# Altium schematic symbol library conn_rj_ModularJack.SchLib: 41 symbols
Pins are listed as number, name and electrical type; pins without a type are passive.

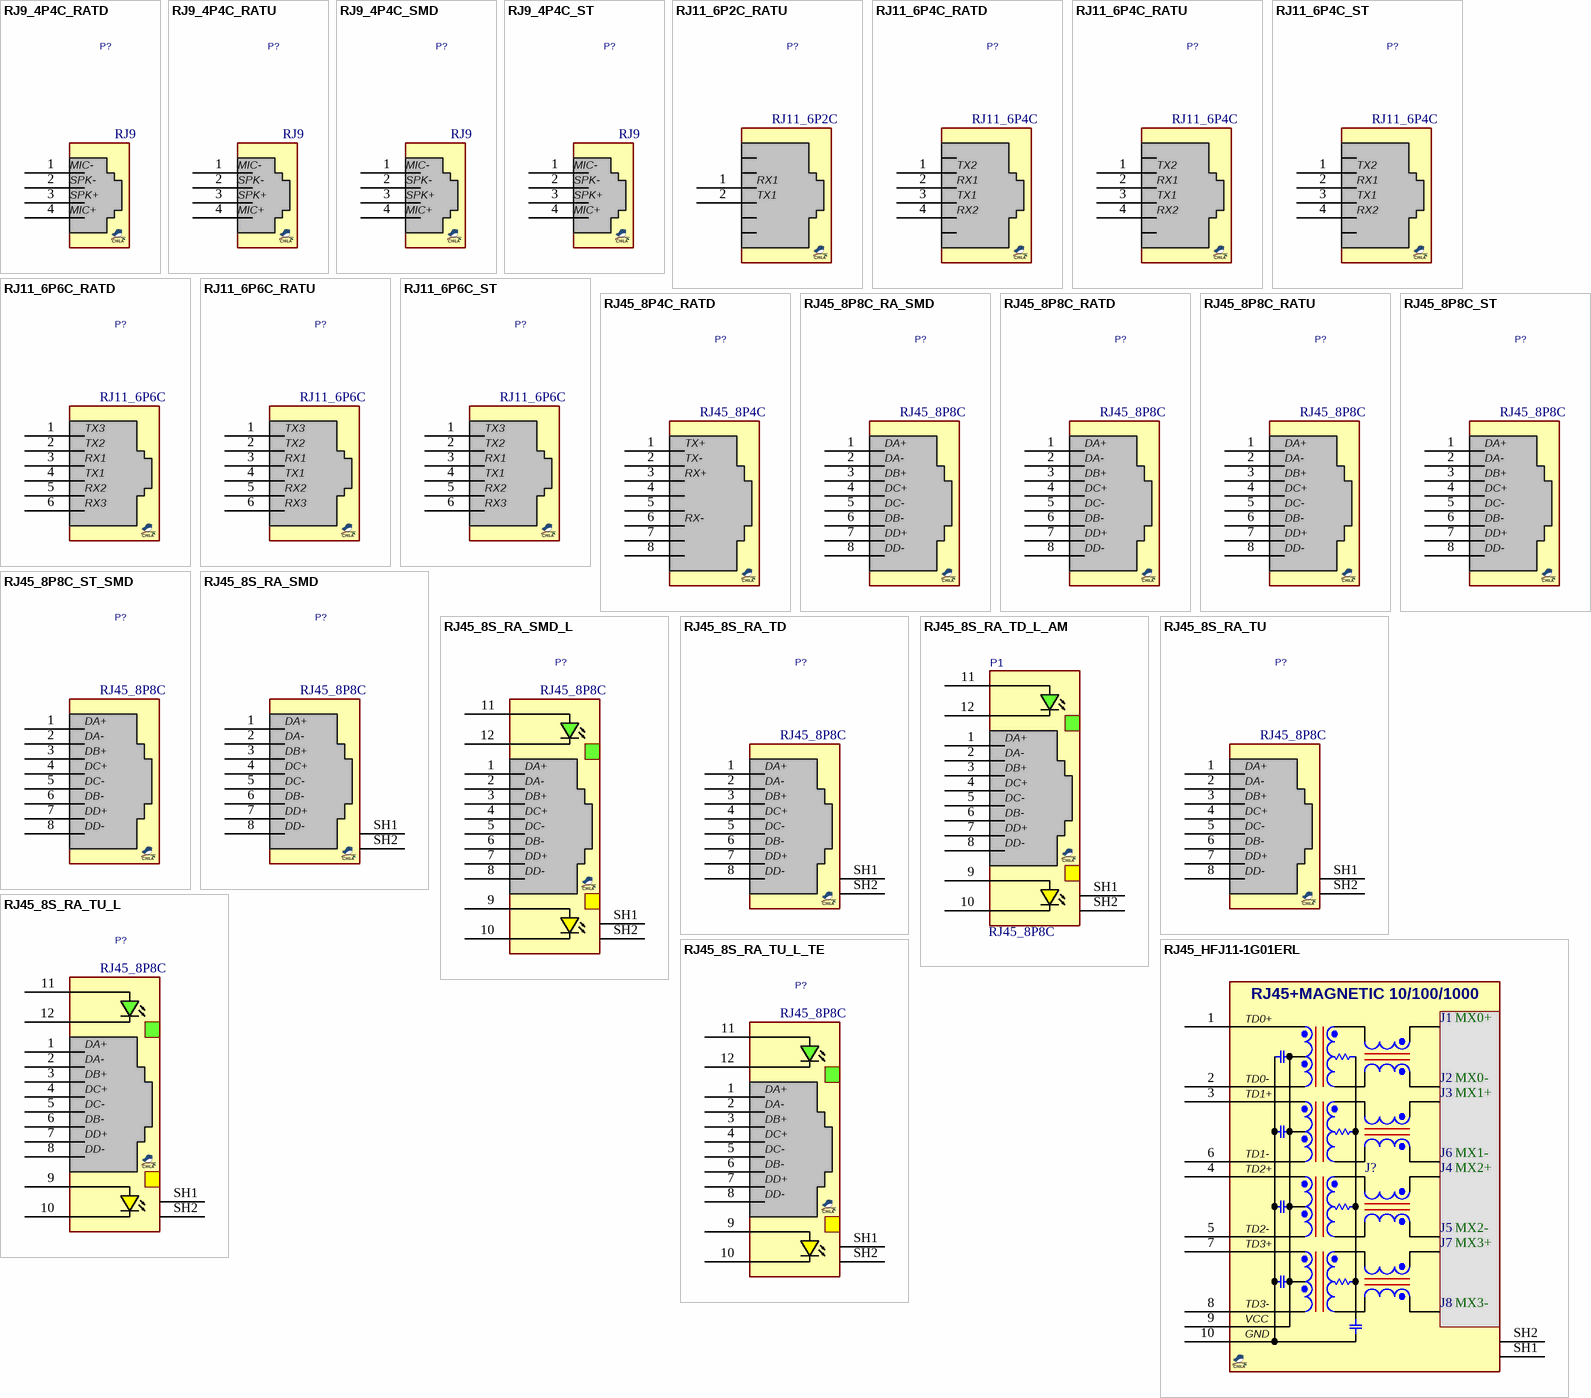
[diagram p0: symbols RJ9_4P4C_RATD to RJ45_HFJ11-1G01ERL]

## RJ9_4P4C_RATD
designator P?, comment RJ9
RJ9, RJ11, 4P4C, RightAngle, TabDown; MANF: MOLEX; MANF_P#: 0950097441; PARAM2: Handset pinout; PRICE: 1.2$; VALUE: RJ9
footprint RJ11_4P4C_RA_TD (RJ11 4P4C, RightAngle, TabDown)
pins: 1 MIC-, 2 SPK-, 3 SPK+, 4 MIC+

## RJ9_4P4C_RATU
designator P?, comment RJ9
RJ9, RJ11, 4P4C, RightAngle, Tab Up,; MANF: WURTH, MOLEX; MANF_P#: 615004143821, 0520184446; PARAM2: Handset pinout; PRICE: 1.2$; VALUE: RJ9
footprint RJ11_4P4C_RA_TU (RJ11 4P4C, RightAngle, TabUp)
pins: 1 MIC-, 2 SPK-, 3 SPK+, 4 MIC+

## RJ9_4P4C_SMD
designator P?, comment RJ9
RJ9, RJ11, 4P4C, RightAngle, Tab Up,; MANF: WURTH; MANF_P#: 634104149621; PARAM2: Handset pinout; PRICE: 1.2$; VALUE: RJ9
footprint RJ11_4P4C_SMD (RJ11 4P4C, Tab Up, Straight, Top Entry_4P4C T&R with Mylar for Pick & Place)
pins: 1 MIC-, 2 SPK-, 3 SPK+, 4 MIC+

## RJ9_4P4C_ST
designator P?, comment RJ9
RJ9, RJ11, 4P4C, Straight; MANF: WURTH, MOLEX; MANF_P#: 615004144021, 0955036451; PARAM2: Handset pinout; PRICE: 1.2$; VALUE: RJ9
footprint RJ11_4P4C_ST (RJ11 4P4C, Tab Up, Straight, WURTH 615004144021)
pins: 1 MIC-, 2 SPK-, 3 SPK+, 4 MIC+

## RJ11_6P2C_RATU
designator P?, comment RJ11_6P2C
RJ11, 6P2C, RightAngle, Tab Up; MANF: WURTH; MANF_P#: 615002138421; PRICE: 1.2$; VALUE: RJ11_6P2C
footprint RJ11_6P2C_RA_TU (RJ11, 6P2C, RightAngle TabUp, WURTH 615002138421)
pins: 1 RX1, 2 TX1

## RJ11_6P4C_RATD
designator P?, comment RJ11_6P4C
RJ11, RJ14, 6P4C, RightAngle, TabDown; MANF: WURTH; MANF_P#: 615004141121; PRICE: 1.2$; VALUE: RJ11_6P4C
footprint RJ11_6P4C_RA_TD (RJ11 6P4C, RightAngle, TabDown, WURTH 615004141121)
pins: 1 TX2, 2 RX1, 3 TX1, 4 TX3
text: RX2

## RJ11_6P4C_RATU
designator P?, comment RJ11_6P4C
RJ11, RJ14, 6P4C, RightAngle, Tab Up; MANF: WURTH; MANF_P#: 615004138421; PRICE: 1.2$; VALUE: RJ11_6P4C
footprint RJ11_6P4C_RA_TU (RJ11, 6P4C, RightAngle TabUp, WURTH 615004138421)
pins: 1 TX2, 2 RX1, 3 TX1, 4 TX3
text: RX2

## RJ11_6P4C_ST
designator P?, comment RJ11_6P4C
RJ11, RJ14, 6P4C, Straight, TOP Entry; MANF: WURTH; MANF_P#: 615004144121,; PRICE: 1.2$; VALUE: RJ11_6P4C
footprint RJ11_6P4C_ST (RJ11, 6P4C, Straight, WURTH 615004144121)
pins: 1 TX2, 2 RX1, 3 TX1, 4 TX3
text: RX2

## RJ11_6P6C_RATD
designator P?, comment RJ11_6P6C
RJ11, RJ25, 6P6C, RightAngle, TabDown; MANF: WURTH; MANF_P#: 615004141121, 615006143621; PRICE: 1.2$; VALUE: RJ11_6P6C
footprint RJ11_6P6C_RA_TD (RJ11 6P6C, RightAngle, TabDown, WURTH 615004141121)
pins: 1 TX3, 2 TX2, 3 RX1, 4 TX1, 5 RX2, 6 RX3

## RJ11_6P6C_RATU
designator P?, comment RJ11_6P6C
RJ11, RJ25, 6P6C, RightAngle, Tab Up; MANF: WURTH; MANF_P#: 615006138421; PRICE: 1.2$; VALUE: RJ11_6P6C
footprint RJ11_6P6C_RA_TU (RJ11, 6P6C, RightAngle TabUp, WURTH 615006138421)
pins: 1 TX3, 2 TX2, 3 RX1, 4 TX1, 5 RX2, 6 RX3

## RJ11_6P6C_ST
designator P?, comment RJ11_6P6C
RJ11, RJ25, 6P6C, Straight, TOP Entry; MANF: WURTH; MANF_P#: 615006144121, 615006138521; PRICE: 1.2$; VALUE: RJ11_6P6C
footprint RJ11_6P6C_ST (RJ11, 6P6C, Straight, WURTH 615006144121)
pins: 1 TX3, 2 TX2, 3 RX1, 4 TX1, 5 RX2, 6 RX3

## RJ45_8P4C_RATD
designator P?, comment RJ45_8P4C
RJ45, 8P4C, RightAngle, Tab Down; MANF: WURTH; MANF_P#: 615008137121, 615008143721; PARAM2: 10/100BASE; PRICE: 1.2$; VALUE: RJ45_8P4C
footprint RJ45_8_RA_TD (RJ11 6P6C, RightAngle, TabDown, WURTH 615008137121)
pins: 1 TX+, 2 TX-, 3 RX+, 4 NC, 5 NC, 6 RX-, 7 NC, 8 NC

## RJ45_8P8C_RA_SMD
designator P?, comment RJ45_8P8C
RJ45, 8P8C, RightAngle, Tab Down SMD; MANF: WURTH; MANF_P#: 634008137221, 634108149921; PRICE: 1.2$; VALUE: RJ45_8P8C
footprint RJ45_8_RA_SMD (RJ45 8P8C, RightAngle, TabDown SMD, WURTH 634008137221)
pins: 1 DA+, 2 DA-, 3 DB+, 4 DC+, 5 DC-, 6 DB-, 7 DD+, 8 DD-

## RJ45_8P8C_RATD
designator P?, comment RJ45_8P8C
RJ45, 8P8C, RightAngle, Tab Down; MANF: WURTH; MANF_P#: 615008137121, 615008143721; PRICE: 1.2$; VALUE: RJ45_8P8C
footprint RJ45_8_RA_TD (RJ11 6P6C, RightAngle, TabDown, WURTH 615008137121)
pins: 1 DA+, 2 DA-, 3 DB+, 4 DC+, 5 DC-, 6 DB-, 7 DD+, 8 DD-

## RJ45_8P8C_RATU
designator P?, comment RJ45_8P8C
RJ45, 8P8C, RightAngle, TabUp; MANF: WURTH; MANF_P#: 615008148521; PRICE: 1.2$; VALUE: RJ45_8P8C
footprint RJ45_8_RA_TU (RJ45 8P8C, RightAngle, TabUp, WURTH 615008148521)
pins: 1 DA+, 2 DA-, 3 DB+, 4 DC+, 5 DC-, 6 DB-, 7 DD+, 8 DD-

## RJ45_8P8C_ST
designator P?, comment RJ45_8P8C
RJ45, 8P8C, Straight, TOP Entry; MANF: WURTH; MANF_P#: 615008138021, 615008144221; PRICE: 1.2$; VALUE: RJ45_8P8C
footprint RJ45_8_ST (RJ45 8P8C, Straight, WURTH  615008138021)
pins: 1 DA+, 2 DA-, 3 DB+, 4 DC+, 5 DC-, 6 DB-, 7 DD+, 8 DD-

## RJ45_8P8C_ST_SMD
designator P?, comment RJ45_8P8C
RJ45, 8P8C, Straight, SMD; MANF: WURTH; MANF_P#: 634008138121; PRICE: 1.2$; VALUE: RJ45_8P8C
footprint RJ45_8_ST_SMD (RJ45 8P8C, Straight SMD, WURTH 634008138121)
pins: 1 DA+, 2 DA-, 3 DB+, 4 DC+, 5 DC-, 6 DB-, 7 DD+, 8 DD-

## RJ45_8S_RA_SMD
designator P?, comment RJ45_8P8C
RJ45, 8P, SHIELDED, RightAngle, TabUp, SMDEMI panel ground; MANF: WURTH; MANF_P#: 634008149721; PRICE: 1.2$; VALUE: RJ45_8P8C
footprint RJ45_8S_RA_SMD (RJ45, 8P8C, RightAngle, Tabup, SMD, WURTH 634008149721)
pins: 1 DA+, 2 DA-, 3 DB+, 4 DC+, 5 DC-, 6 DB-, 7 DD+, 8 DD-, SH1, SH2

## RJ45_8S_RA_SMD_L
designator P?, comment RJ45_8P8C
RJ45, 8P, SHIELDED, RightAngle, TabUp, SMDEMI panel ground; MANF: WURTH; MANF_P#: 634008149721; PARAM2: SHIELDED, RightAngle, TabUp, SMDEMI panel ground; PRICE: 1.2$; VALUE: RJ45_8P8C
footprint RJ45_8S_RA_SMD_L (RJ45, 8P+G/Y-LED, RightAngle, TabUp, SMD, WURTH 634008137521)
pins: 1 DA+, 2 DA-, 3 DB+, 4 DC+, 5 DC-, 6 DB-, 7 DD+, 8 DD-, 9 YLED+, 10 YLED-, 11 GLED+, 12 GLED-, SH1, SH2

## RJ45_8S_RA_TD
designator P?, comment RJ45_8P8C
RJ45, 8P, SHIELDED, RightAngle, TabDown; MANF: WURTH; MANF_P#: 615008142621; PRICE: 1.2$; VALUE: RJ45_8P8C
footprint RJ45_8S_RA_TD (RJ45, 8P, SHIELDED, RightAngle, TabDown, WURTH 615008142621)
pins: 1 DA+, 2 DA-, 3 DB+, 4 DC+, 5 DC-, 6 DB-, 7 DD+, 8 DD-, SH1, SH2

## RJ45_8S_RA_TD_L_AM
designator P1, comment RJ45_8P8C
RJ45, 8P+LED, SHIELDED, RightAngle, TabDown; MANF: Amphenol; MANF_P#: RJE73-188-00440; PARAM: 8P+LED, SHIELDED, -40~85 °C; PARAM2: RightAngle, TabDown; PRICE: 1.2$; VALUE: RJ45_8P8C
footprint RJ45_8S_RA_TD_L (RJ45, 8P+LED, SHIELDED, RightAngle, TabDOWN, RJE73-188-00XX)
pins: 1 DA+, 2 DA-, 3 DB+, 4 DC+, 5 DC-, 6 DB-, 7 DD+, 8 DD-, 9 YLED+, 10 YLED-, 11 GLED+, 12 GLED-, SH1, SH2

## RJ45_8S_RA_TU
designator P?, comment RJ45_8P8C
RJ45, 8P, SHIELDED, RightAngle, TabUP; MANF: WURTH; MANF_P#: 615008140621; PRICE: 1.2$; VALUE: RJ45_8P8C
footprint RJ45_8S_RA_TU (RJ45, 8P, SHIELDED, RightAngle, TabUP, WURTH 615008140621)
pins: 1 DA+, 2 DA-, 3 DB+, 4 DC+, 5 DC-, 6 DB-, 7 DD+, 8 DD-, SH1, SH2

## RJ45_8S_RA_TU_L
designator P?, comment RJ45_8P8C
RJ45, 8P+LED, SHIELDED, RightAngle, TabUP; MANF: WURTH; MANF_P#: 615008137421; PRICE: 1.2$; VALUE: RJ45_8P8C
footprint RJ45_8S_RA_TU_L (RJ45, 8P+LED, SHIELDED, RightAngle, TabUP, WURTH 615008137421)
pins: 1 DA+, 2 DA-, 3 DB+, 4 DC+, 5 DC-, 6 DB-, 7 DD+, 8 DD-, 9 YLED+, 10 YLED-, 11 GLED+, 12 GLED-, SH1, SH2

## RJ45_8S_RA_TU_L_TE
designator P?, comment RJ45_8P8C
RJ45, 8P+LED, SHIELDED, RightAngle, TabUP; MANF: TE; MANF_P#: 6116075-4; PARAM: 8P+LED, SHIELDED, -40~85 °C; PARAM2: RightAngle, TabUP; PRICE: 1.2$; VALUE: RJ45_8P8C
footprint RJ45_8S_RA_TU_L (RJ45, 8P+LED, SHIELDED, RightAngle, TabUP, WURTH 615008137421)
pins: 1 DA+, 2 DA-, 3 DB+, 4 DC+, 5 DC-, 6 DB-, 7 DD+, 8 DD-, 9 YLED+, 10 YLED-, 11 GLED+, 12 GLED-, SH1, SH2

## RJ45_HFJ11-1G01ERL
designator J?, comment RJ45_10/100/1000  (value not drawn)
RJ45, 10/100/1000, with Magnetic; MANF: HALO; MANF_P#: HFJ11-1G01ERL; PARAM2: 10/100/1000, with Magnetic; PRICE: 15$; VALUE: RJ45_10/100/1000
footprint RJ45_10M_HFJ11_1G (RJ45_HFJ11_1G01E (HALO Ethernet Gigabit FASTJACK))
pins: 1 TD0+, 2 TD0-, 3 TD1+, 4 TD2+, 5 TD2-, 6 TD1-, 7 TD3+, 8 TD3-, 9 VCC, 10 GND, SH1, SH2
text: RJ45+MAGNETIC 10/100/1000; J1; MX0+; J2; MX0-; J3; MX1+; J6; MX1-; J4; MX2+; J5; MX2-; J7; MX3+; J8; MX3-

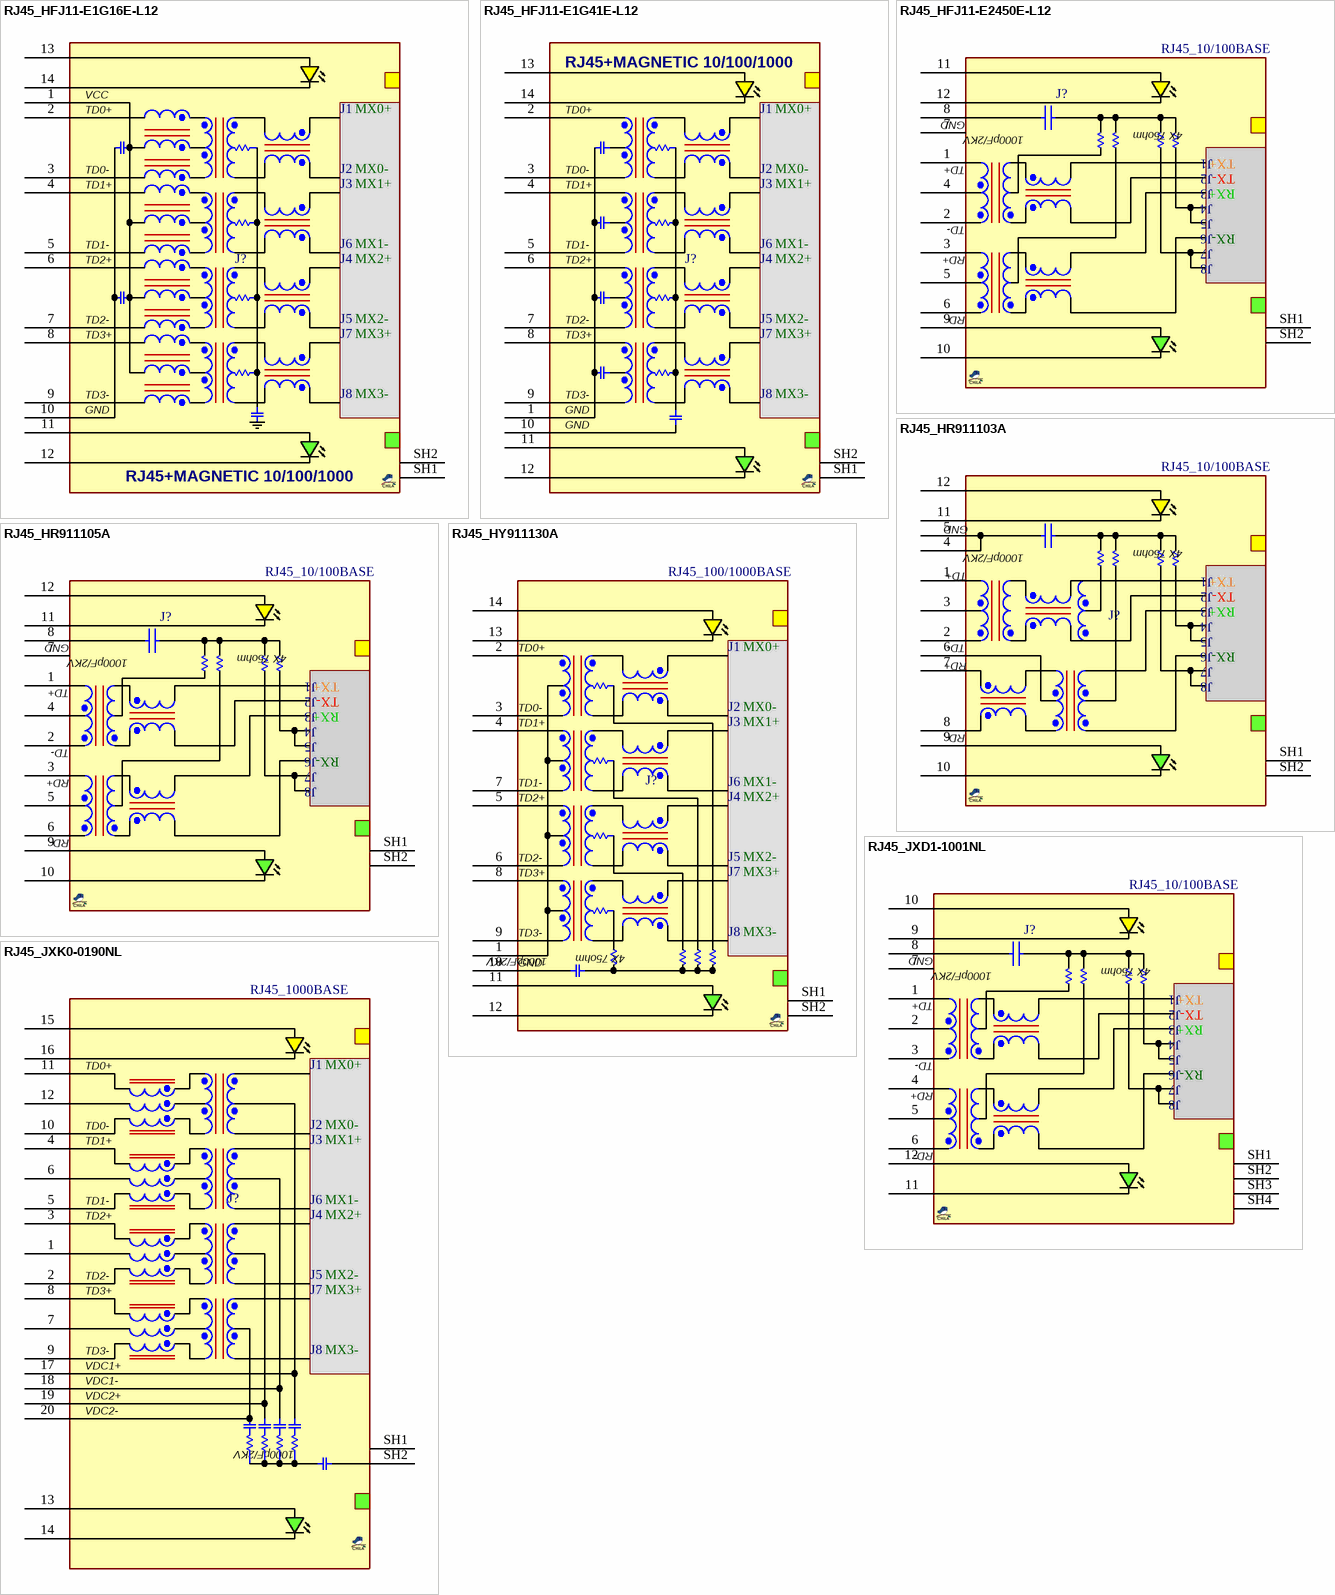
[diagram p1: symbols RJ45_HFJ11-E1G16E-L12 to RJ45_JXK0-0190NL]

## RJ45_HFJ11-E1G16E-L12
designator J?, comment RJ45_10/100/1000  (value not drawn)
RJ45, 10/100/1000, with Magnetic, G/Y LED; MANF: HALO; MANF_P#: HFJ11-E1G16E-L12RL; PARAM: -40~85oC; PARAM2: 10/100/1000, with Magnetic, G/Y LED; PRICE: 20$; VALUE: RJ45_10/100/1000
footprint RJ45_10M_HFJ11_1G_L (RJ45_HFJ11 (HALO Ethernet Gigabit FASTJACK) WITH LED)
pins: 1 VCC, 2 TD0+, 3 TD0-, 4 TD1+, 5 TD1-, 6 TD2+, 7 TD2-, 8 TD3+, 9 TD3-, 10 CHSGND, 11 GLED+, 12 GLED-, 13 YLED+, 14 YLED-, SH1, SH2
text: J1; MX0+; J2; MX0-; J3; MX1+; J6; MX1-; J4; MX2+; J5; MX2-; J7; MX3+; J8; MX3-; GND; RJ45+MAGNETIC 10/100/1000

## RJ45_HFJ11-E1G41E-L12
designator J?, comment RJ45_10/100/1000  (value not drawn)
RJ45, 10/100/1000, with Magnetic, G/Y LED; MANF: HALO; MANF_P#: HFJ11-E1G41E-L12RL; PARAM: -40~85oC; PARAM2: 10/100/1000, with Magnetic, G/Y LED; PRICE: 20$; VALUE: RJ45_10/100/1000
footprint RJ45_10M_HFJ11_1G_L (RJ45_HFJ11 (HALO Ethernet Gigabit FASTJACK) WITH LED)
pins: 1 GND, 2 TD0+, 3 TD0-, 4 TD1+, 5 TD1-, 6 TD2+, 7 TD2-, 8 TD3+, 9 TD3-, 10 CHSGND, 11 GLED+, 12 GLED-, 13 YLED+, 14 YLED-, SH1, SH2
text: RJ45+MAGNETIC 10/100/1000; J1; MX0+; J2; MX0-; J3; MX1+; J6; MX1-; J4; MX2+; J5; MX2-; J7; MX3+; J8; MX3-

## RJ45_HFJ11-E2450E-L12
designator J?, comment RJ45_10/100BASE
RJ45, 10/100BASE, G/Y LED; MANF: HALO; MANF_P#: HFJ11-E2450E-L12RL; PARAM: 0~70oC; PARAM2: 10/100BASE, G/Y LED; VALUE: RJ45_10/100BASE
footprint RJ45_8M_RA_TD_LI (Ethernet FASTJACK MAGJACK with LED INLINE)
pins: 1 TD+, 2 TD-, 3 RD+, 4 TCT, 5 RCT, 6 RD-, 7 NC, 8 CHSGND, 9 GLED+, 10 GLED-, 11 YLED+, 12 YLED-, SH1, SH2
text: GND; 4X 75ohm; 1000pF/2KV; J1; TX+; J2; TX-; J3; RX+; J4; J5; J6; RX-; J7; J8

## RJ45_HR911103A
designator J?, comment RJ45_10/100BASE
RJ45, 10/100BASE, G/Y LED; MANF: Hanrun; MANF_P#: HR911103A; PARAM2: 10/100BASE, G/Y LED; VALUE: RJ45_10/100BASE
footprint RJ45_8M_HR911103A (RJ45, 10/100BASE, HR911103A WITH G/Y LED)
pins: 1 TD+, 2 TD-, 3 TCT, 4, 5 CHSGND, 6 RCT, 7 RD+, 8 RD-, 9 GLED+, 10 GLED-, 11 YLED-, 12 YLED+, SH1, SH2
text: GND; 4X 75ohm; 1000pF/2KV; J1; TX+; J2; TX-; J3; RX+; J4; J5; J6; RX-; J7; J8

## RJ45_HR911105A
designator J?, comment RJ45_10/100BASE
RJ45, 10/100BASE, G/Y LED; MANF: Hanrun; MANF_P#: HR911105A; PARAM2: 10/100BASE, G/Y LED; VALUE: RJ45_10/100BASE
footprint RJ45_8M_HR911105A (RJ45, 10/100BASE, HR911105A WITH G/Y LED)
pins: 1 TD+, 2 TD-, 3 RD+, 4 TCT, 5 RCT, 6 RD-, 7 NC, 8 CHSGND, 9 GLED+, 10 GLED-, 11 YLED-, 12 YLED+, SH1, SH2
text: GND; 4X 75ohm; 1000pF/2KV; J1; TX+; J2; TX-; J3; RX+; J4; J5; J6; RX-; J7; J8

## RJ45_HY911130A
designator J?, comment RJ45_100/1000BASE
RJ45, 100/1000BASE, G/Y LED; MANF: Hanrun, LINK-PP; MANF_P#: HY911130A, HR911130A, LPJG0806FBNL; PARAM: 0~70oC; PARAM2: 100/1000BASE, G/Y LED; VALUE: RJ45_100/1000BASE
footprint RJ45_10M_HR911130A (RJ45, 1000BASE, HR911130A WITH G/Y LED)
pins: 1 P1, 2 TD0+, 3 TD0-, 4 TD1+, 5 TD2+, 6 TD2-, 7 TD1-, 8 TD3+, 9 TD3-, 10 GND, 11 GLED+, 12 GLED-, 13 YLED-, 14 YLED+, SH1, SH2
text: J1; MX0+; J2; MX0-; J3; MX1+; J6; MX1-; J4; MX2+; J5; MX2-; J7; MX3+; J8; MX3-; 4X 75ohm; 1000pF/2KV

## RJ45_JXD1-1001NL
designator J?, comment RJ45_10/100BASE
RJ45, 10/100BASE, G/Y LED; MANF: PULSE; MANF_P#: JXD1-1001NL; PARAM: -40~85oC; PARAM2: 10/100BASE, G/Y LED; PRICE: 6$; VALUE: RJ45_10/100BASE
footprint RJ45_8M_RA_JXD1 (Ethernet 10/100 JXD1-1001NL)
pins: 1 TD+, 2 TCT, 3 TD-, 4 RD+, 5 RCT, 6 RD-, 7 NC, 8 CHSGND, 9 YLED-, 10 YLED+, 11 GLED-, 12 GLED+, SH1, SH2, SH3, SH4
text: GND; 4X 75ohm; 1000pF/2KV; J1; TX+; J2; TX-; J3; RX+; J4; J5; J6; RX-; J7; J8

## RJ45_JXK0-0190NL
designator J?, comment RJ45_1000BASE
RJ45, 1000BASE, G/Y LED + POE; MANF: Pulse; MANF_P#: JXK0-0190NL; PARAM: 4PAIR POE 75W, -40~85oC; PARAM2: 1000BASE, G/Y LED; VALUE: RJ45_1000BASE
footprint RJ45_20M_JXK0_0190 (RJ45, 1000Base, JXK0-0190NL Pulse)
pins: 1 MDCT3, 2 MD3-, 3 MD3+, 4 MD2+, 5 MD2-, 6 MDCT2, 7 MDCT4, 8 MD4+, 9 MD4-, 10 MD1-, 11 MD1+, 12 MDCT1, 13 GLEDA, 14 GLEDK, 15 YLEDA, 16 YLEDK, 17 VC1+, 18 VC1-, 19 VC2+, 20 VC2-, SH1, SH2
text: TD0+; J1; MX0+; TD0-; J2; MX0-; TD1+; J3; MX1+; TD1-; J6; MX1-; TD2+; J4; MX2+; TD2-; J5; MX2-; TD3+; J7; MX3+; TD3-; J8; MX3-; VDC1+; VDC1-; VDC2+; VDC2-; 1000pF/2KV

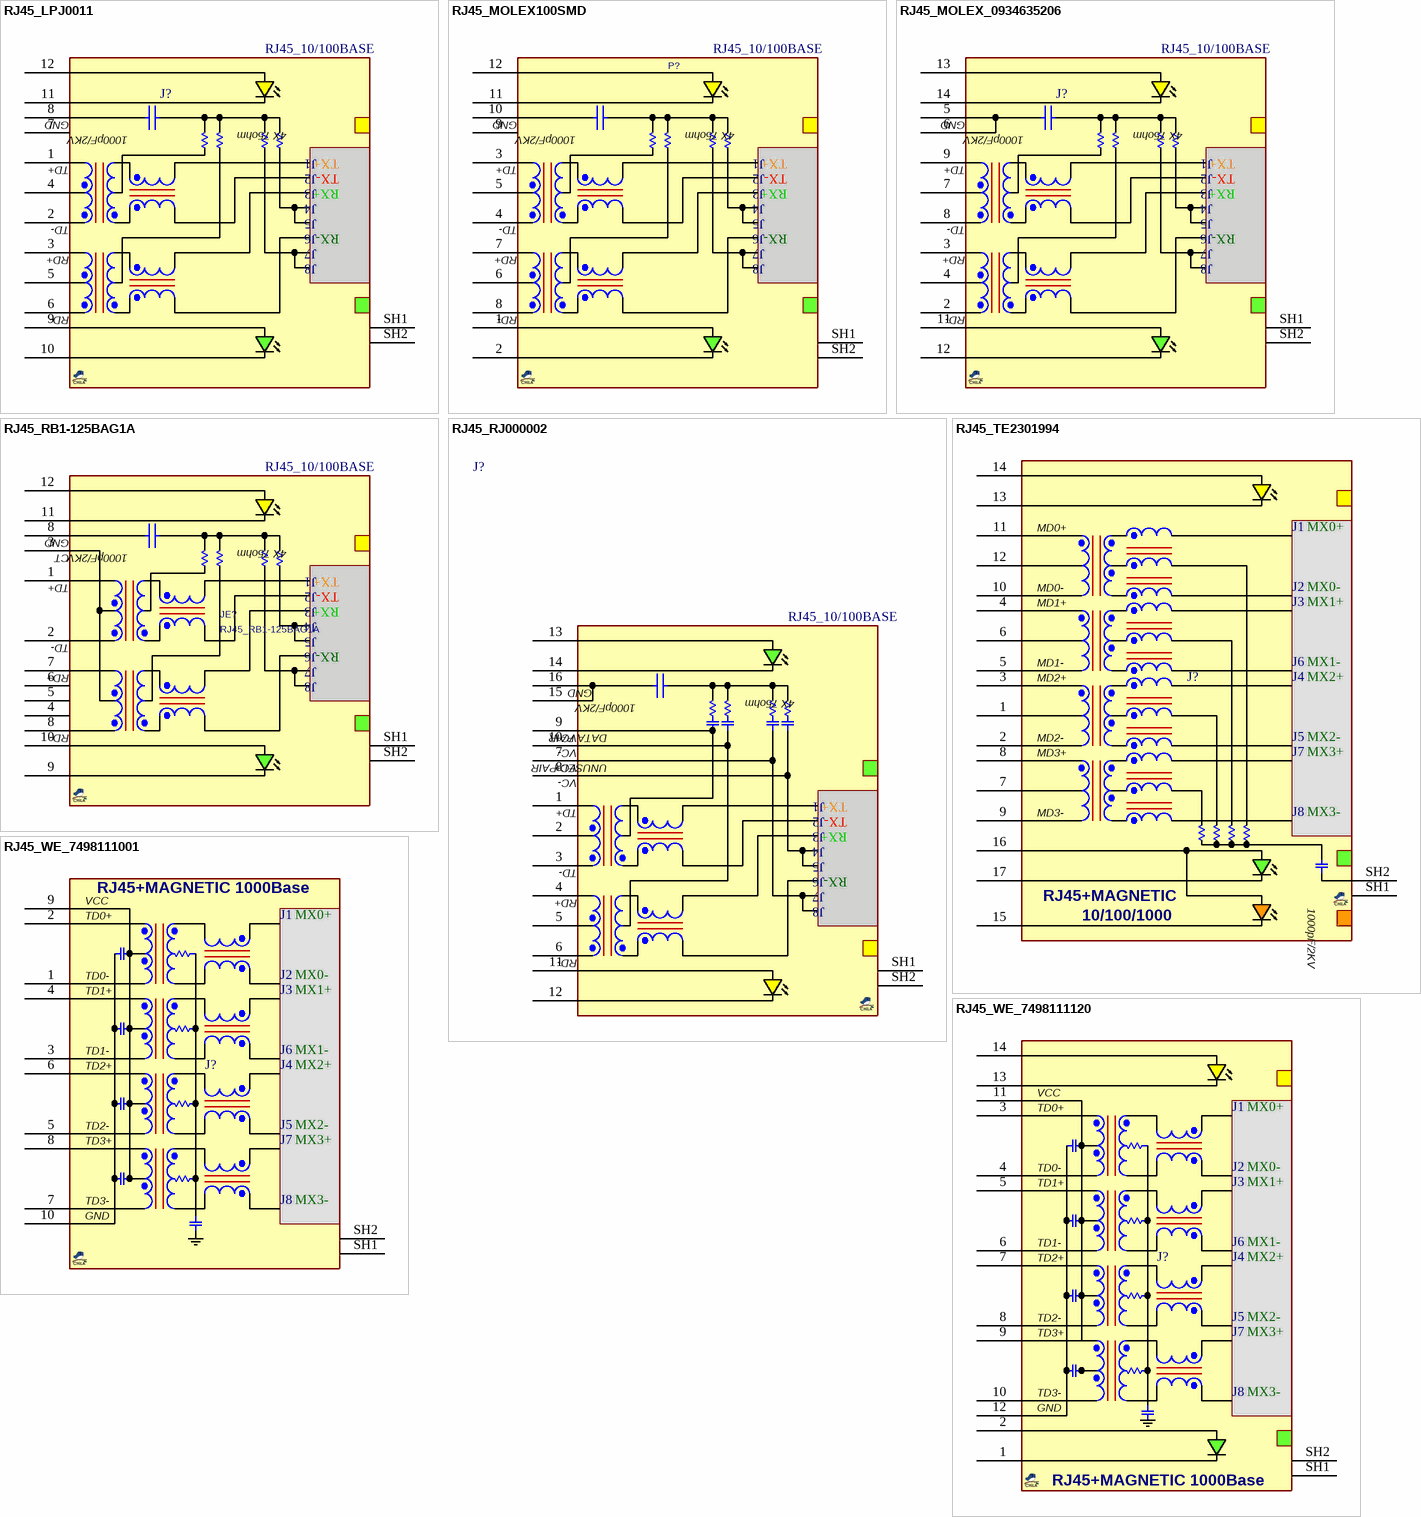
[diagram p2: symbols RJ45_LPJ0011 to RJ45_WE_7498111120]

## RJ45_LPJ0011
designator J?, comment RJ45_10/100BASE
RJ45, 10/100BASE, G/Y LED; MANF: LINK-PP; MANF_P#: LPJ0011BBNL; PARAM: 0~70oC; PARAM2: 10/100BASE, G/Y LED; VALUE: RJ45_10/100BASE
footprint RJ45_8M_HR911105A (RJ45, 10/100BASE, HR911105A WITH G/Y LED)
pins: 1 TD+, 2 TD-, 3 RD+, 4 TCT, 5 RCT, 6 RD-, 7 NC, 8 CHSGND, 9 GLED+, 10 GLED-, 11 YLED-, 12 YLED+, SH1, SH2
text: GND; 4X 75ohm; 1000pF/2KV; J1; TX+; J2; TX-; J3; RX+; J4; J5; J6; RX-; J7; J8

## RJ45_MOLEX100SMD
designator P?, comment RJ45_10/100BASE
RJ45, 10/100BASE, G/Y LED, SMT; DESC: MAGNET AND MODULAR JACK; MANF: MOLEX; MANF_P#: 48074-9001; PARAM2: 10/100BASE, G/Y LED; VALUE: RJ45_10/100BASE
footprint RJ45_8M_100M_SMD (RJ45, 10/100BASE, MOLEX SMD WITH G/Y LED)
pins: 1 GLED+, 2 GLED-, 3 TD+, 4 TD-, 5 TCT, 6 RCT, 7 RD+, 8 RD-, 9 NC, 10 CHSGND, 11 YLED-, 12 YLED+, SH1, SH2
text: GND; 4X 75ohm; 1000pF/2KV; J1; TX+; J2; TX-; J3; RX+; J4; J5; J6; RX-; J7; J8

## RJ45_MOLEX_0934635206
designator J?, comment RJ45_10/100BASE
RJ45, 10/100BASE, G/Y LED, UpTab; MANF: Molex; MANF_P#: 0934635206; PARAM: -40~85oC; PARAM2: 10/100BASE, G/Y LED; PRICE: 4.2$; VALUE: RJ45_10/100BASE
footprint RJ45_8M_0934635206 (RJ45, 10/100BASE, Up Tab, 0934635206 MOLEX)
pins: 2 RD-, 3 RD+, 4 RCT, 5 CHSGND, 6 GND, 7 TCT, 8 TD-, 9 TD+, 11 GLED+, 12 GLED-, 13 YLED+, 14 YLED-, SH1, SH2
text: 4X 75ohm; 1000pF/2KV; J1; TX+; J2; TX-; J3; RX+; J4; J5; J6; RX-; J7; J8

## RJ45_RB1-125BAG1A
designator JE?  value RJ45_10/100BASE
RJ45, 10/100BASE, G/Y LED; DIST#: DIGIKEY/1278-1011-ND; DESC: CONN MAGJACK 1PORT 100 BASE-T; MANF: WIZNET; PRICE: 1:$2.55; MANF_P#: RB1-125BAG1A; PARAM2: 10/100BASE, G/Y LED
footprint RJ45_8M_LS (HALO Ethernet FASTJACK with LED STAGGERED, RB1-125BAG1A)
pins: 1 TD+, 2 TD-, 3 CT, 4, 5, 6, 7 RD+, 8 RD-, 8 CHSGND, 9 GLED-, 10 GLED+, 11 YLED-, 12 YLED+, SH1, SH2
text: GND; 4X 75ohm; 1000pF/2KV; J1; TX+; J2; TX-; J3; RX+; J4; J5; J6; RX-; J7; J8

## RJ45_RJ000002
designator J?, comment RJ45_10/100BASE
RJ45, 10/100BASE, G/Y LED; MANF: LINK-PP, YCL; MANF_P#: RJ000002; PARAM2: 10/100BASE, G/Y LED; VALUE: RJ45_10/100BASE
footprint RJ45_10M_RJ000002 (RJ45, 10/100BASE,)
pins: 1 TD+, 2 TCT, 3 TD-, 4 RD+, 5 RCT, 6 RD-, 7 VCU+, 8 VCU-, 9 VCD+, 10 VCD-, 11 YLED+, 12 YLED-, 13 GLED+, 14 GLED-, 15 P15, 16 CHSGND, SH1, SH2
text: GND; 4X 75ohm; 1000pF/2KV; VC+; DATA PAIR; VC-; UNUSED PAIR; J1; TX+; J2; TX-; J3; RX+; J4; J5; J6; RX-; J7; J8

## RJ45_TE2301994
designator J?, comment RJ45_10/100/1000  (value not drawn)
RJ45, 10/100/1000, with Magnetic, G/Y LED; MANF: TE; MANF_P#: 6-2301994-1; PARAM: -40~85oC; PARAM2: 10/100/1000, with Magnetic, G/Y LED; PRICE: 9$; VALUE: RJ45_10/100/1000
footprint RJ45_12M_TE2301994 (RJ45, 1000Base, Up Tab, TE 6-2301994-1)
pins: 1 MDCT2, 2 MD2-, 3 MD2+, 4 MD1+, 5 MD1-, 6 MDCT1, 7 MDCT3, 8 MD3+, 9 MD3-, 10 MD0-, 11 MD0+, 12 MDCT0, 13 YLED-, 14 YLED+, 15 OLED-, 16 GLED+, 17 GLED-, SH1, SH2
text: J1; MX0+; J2; MX0-; J3; MX1+; J6; MX1-; J4; MX2+; J5; MX2-; J7; MX3+; J8; MX3-; RJ45+MAGNETIC; 1000pF/2KV; 10/100/1000

## RJ45_WE_7498111001
designator J?, comment RJ45_1000Base  (value not drawn)
RJ45, 1000Base, with Magnetic; MANF: WE; MANF_P#: 7498111001; PARAM: -40~85oC; PARAM2: 1000Base, with Magnetic; PRICE: 12$; VALUE: RJ45_1000Base
footprint RJ45_10M_WE7498111001 (Footprint not found)
pins: 1 TD0-, 2 TD0+, 3 TD1-, 4 TD1+, 5 TD2-, 6 TD2+, 7 TD3-, 8 TD3+, 9 VCC, 10 CHSGND, SH1, SH2
text: RJ45+MAGNETIC 1000Base; J1; MX0+; J2; MX0-; J3; MX1+; J6; MX1-; J4; MX2+; J5; MX2-; J7; MX3+; J8; MX3-; GND

## RJ45_WE_7498111120
designator J?, comment RJ45_1000Base  (value not drawn)
RJ45, 1000Base, with Magnetic + LED G/Y; MANF: WE; MANF_P#: 7498111120R; PARAM: 0~70oC; PARAM2: 1000Base, with Magnetic + LED G/Y; PRICE: 13$; VALUE: RJ45_1000Base
footprint RJ45_10M_WE7498111120 (Footprint not found)
pins: 1 GLED-, 2 GLED+, 3 TD0+, 4 TD0-, 5 TD1+, 6 TD1-, 7 TD2+, 8 TD2-, 9 TD3+, 10 TD3-, 11 VCC, 12 CHSGND, 13 YLED-, 14 YLED+, SH1, SH2
text: J1; MX0+; J2; MX0-; J3; MX1+; J6; MX1-; J4; MX2+; J5; MX2-; J7; MX3+; J8; MX3-; GND; RJ45+MAGNETIC 1000Base